# Altium footprint library SOP127P600-8N_Connector_100PIN_Hirose.PcbLib: 1 footprints
Each footprint in its own frame and in the unit in brackets; x right, y up, seen from the top. Pads: shape width x height; smd on the part's side, far side on the other; paste and mask are expansions set on the pad; w line width, h text height; cw(c..) or ccw(c..) is an arc to the next point about the centre after c.
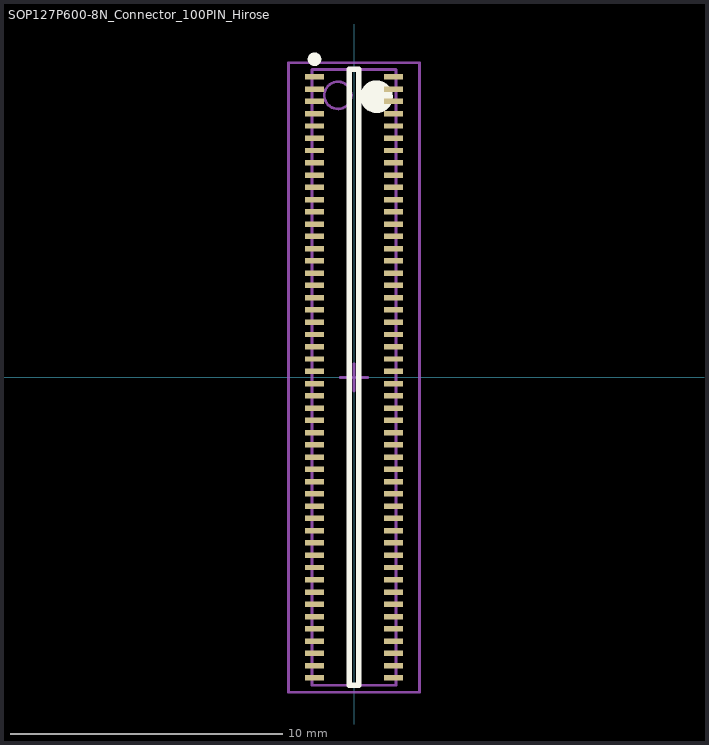
[diagram p0: the footprint, top view; thin cyan lines are the x and y axes]

## SOP127P600-8N_Connector_100PIN_Hirose [mm] "SOP127P600-8N_Connector_100PIN_Hirose"
height 1.55
pads (100):
  rect 0.7x0.2 smd: 1(-1.45,11.025) 2(-1.45,10.575) 3(-1.45,10.125) 4(-1.45,9.675) 5(-1.45,9.225) 6(-1.45,8.775) 7(-1.45,8.325) 8(-1.45,7.875) 9(-1.45,7.425) 10(-1.45,6.975) 11(-1.45,6.525) 12(-1.45,6.075) 13(-1.45,5.625) 14(-1.45,5.175) 15(-1.45,4.725) 16(-1.45,4.275) 17(-1.45,3.825) 18(-1.45,3.375) 19(-1.45,2.925) 20(-1.45,2.475) 21(-1.45,2.025) 22(-1.45,1.575) 23(-1.45,1.125) 24(-1.45,0.675) 25(-1.45,0.225) 26(-1.45,-0.225) 27(-1.45,-0.675) 28(-1.45,-1.125) 29(-1.45,-1.575) 30(-1.45,-2.025) 31(-1.45,-2.475) 32(-1.45,-2.925) 33(-1.45,-3.375) 34(-1.45,-3.825) 35(-1.45,-4.275) 36(-1.45,-4.725) 37(-1.45,-5.175) 38(-1.45,-5.625) 39(-1.45,-6.075) 40(-1.45,-6.525) 41(-1.45,-6.975) 42(-1.45,-7.425) 43(-1.45,-7.875) 44(-1.45,-8.325) 45(-1.45,-8.775) 46(-1.45,-9.225) 47(-1.45,-9.675) 48(-1.45,-10.125) 49(-1.45,-10.575) 50(-1.45,-11.025) 51(1.45,-11.025) 52(1.45,-10.575) 53(1.45,-10.125) 54(1.45,-9.675) 55(1.45,-9.225) 56(1.45,-8.775) 57(1.45,-8.325) 58(1.45,-7.875) 59(1.45,-7.425) 60(1.45,-6.975) 61(1.45,-6.525) 62(1.45,-6.075) 63(1.45,-5.625) 64(1.45,-5.175) 65(1.45,-4.725) 66(1.45,-4.275) 67(1.45,-3.825) 68(1.45,-3.375) 69(1.45,-2.925) 70(1.45,-2.475) 71(1.45,-2.025) 72(1.45,-1.575) 73(1.45,-1.125) 74(1.45,-0.675) 75(1.45,-0.225) 76(1.45,0.225) 77(1.45,0.675) 78(1.45,1.125) 79(1.45,1.575) 80(1.45,2.025) 81(1.45,2.475) 82(1.45,2.925) 83(1.45,3.375) 84(1.45,3.825) 85(1.45,4.275) 86(1.45,4.725) 87(1.45,5.175) 88(1.45,5.625) 89(1.45,6.075) 90(1.45,6.525) 91(1.45,6.975) 92(1.45,7.425) 93(1.45,7.875) 94(1.45,8.325) 95(1.45,8.775) 96(1.45,9.225) 97(1.45,9.675) 98(1.45,10.125) 99(1.45,10.575) 100(1.45,11.025)
Top Overlay:
  circle w0.25: c-1.45,11.675 r0.125
  circle w0.6: c0.825,10.3 r0.3
  lines w0.2: -0.175,-11.3 -0.175,11.3 0.175,11.3 0.175,-11.3 -0.175,-11.3
Mechanical 13:
  circle w0.1: c-0.59,10.35 r0.5
  lines w0.1: -1.54,-11.3 -1.54,11.3 1.54,11.3 1.54,-11.3 -1.54,-11.3
Mechanical 15:
  lines w0.1: -0.5,0 0.5,0 ; 0,-0.5 0,0.5 ; -2.4,-11.55 -2.4,11.55 2.4,11.55 2.4,-11.55 -2.4,-11.55
3D body: height 1.55, standoff 0.2, extent -1.54,-11.3 1.54,11.3